# Altium integrated library 40Series.IntLib: 38 symbols
Pins are listed as number, name and electrical type; pins without a type are passive.

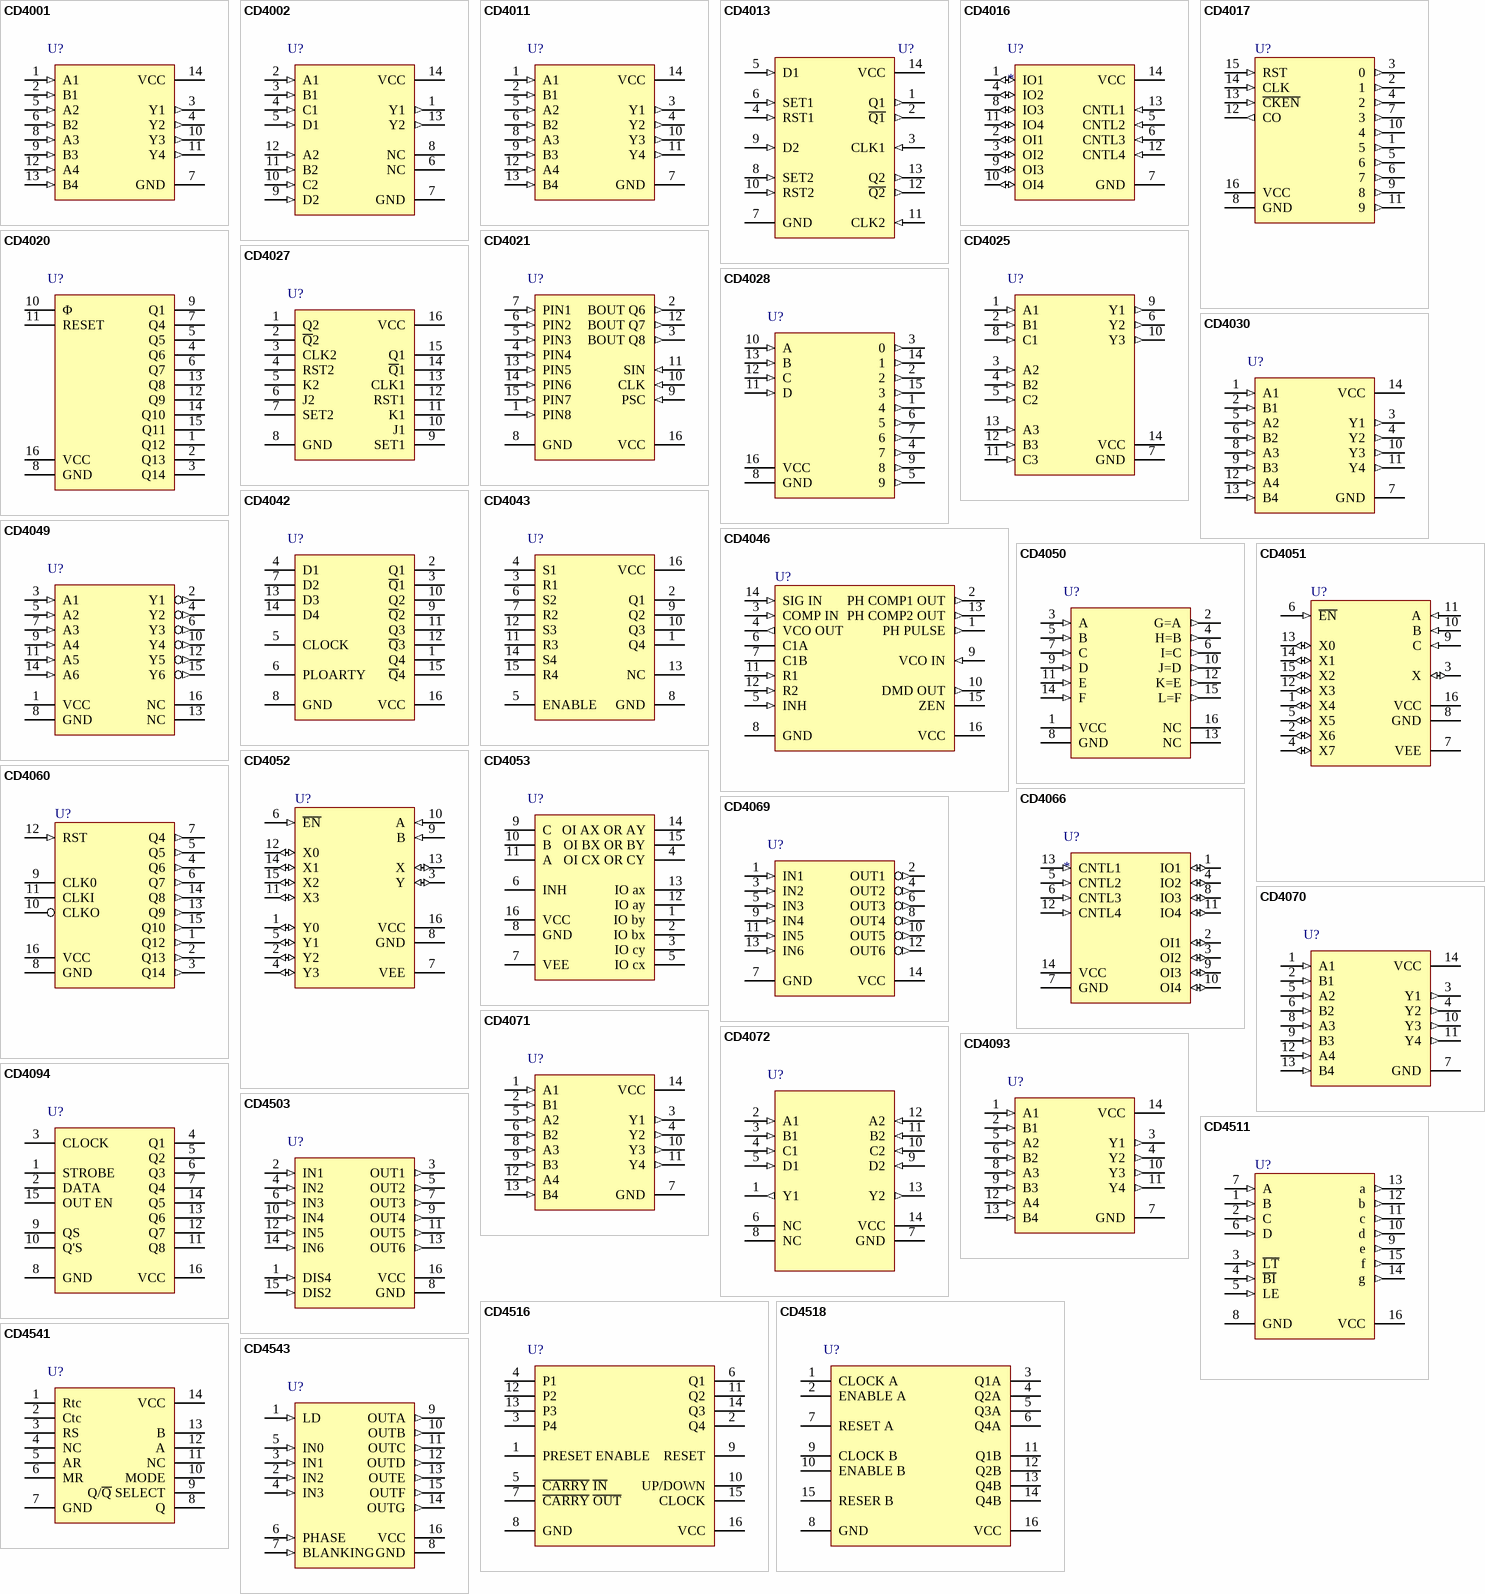
[diagram p0: symbols CD4001 to CD4543]

## CD4001
designator U?
四2输入与或门
footprint DIP14
pins: 1 A1 (in), 2 B1 (in), 3 Y1 (out), 4 Y2 (out), 5 A2 (in), 6 B2 (in), 7 GND (power), 8 A3 (in), 9 B3 (in), 10 Y3 (out), 11 Y4 (out), 12 A4 (in), 13 B4 (in), 14 VCC (power)

## CD4002
designator U?
双4输入或非门
footprint DIP14
pins: 1 Y1 (out), 2 A1 (in), 3 B1 (in), 4 C1 (in), 5 D1 (in), 6 NC, 7 GND (power), 8 NC, 9 D2 (in), 10 C2 (in), 11 B2 (in), 12 A2 (in), 13 Y2 (out), 14 VCC (power)

## CD4011
designator U?
四2输入与非门
footprint DIP14
pins: 1 A1 (in), 2 B1 (in), 3 Y1 (out), 4 Y2 (out), 5 A2 (in), 6 B2 (in), 7 GND (power), 8 A3 (in), 9 B3 (in), 10 Y3 (out), 11 Y4 (out), 12 A4 (in), 13 B4 (in), 14 VCC (power)

## CD4013
designator U?
双主从D型触发器; Published: 17-Jul-2002; LatestRevisionDate: 04-Mar-2005; LatestRevisionNote: Stylized 3D Model Added.; DatasheetVersion: Jan-1999; PackageVersion: 2000; PackageReference: N14A; Publisher: Altium Limited; PackageDescription: DIP; 14 Leads; Row Spacing 7.62 mm; Pitch 2.54 mm; ComponentLink1Description: Manufacturer Link; ComponentLink1URL: http://www.fairchildsemi.com/
footprint DIP14
pins: 1 Q1 (out), 2 ~{Q1} (out), 3 CLK1 (in), 4 RST1 (in), 5 D1 (in), 6 SET1 (in), 7 GND (power), 8 SET2 (in), 9 D2 (in), 10 RST2 (in), 11 CLK2 (in), 12 ~{Q2} (out), 13 Q2 (out), 14 VCC (power)

## CD4016
designator U?
四传输门
footprint DIP14
pins: 1 IO1 (io), 2 OI1 (io), 3 OI2 (io), 4 IO2 (io), 5 CNTL2 (in), 6 CNTL3 (in), 7 GND, 8 IO3 (io), 9 OI3 (io), 10 OI4 (io), 11 IO4 (io), 12 CNTL4 (in), 13 CNTL1 (in), 14 VCC (power)

## CD4017
designator U?
十进制计数器/分频器; Published: 17-Jul-2002; LatestRevisionDate: 04-Mar-2005; LatestRevisionNote: Stylized 3D Model Added.; DatasheetVersion: Jan-1999; PackageVersion: 2000; PackageReference: N16E; Publisher: Altium Limited; PackageDescription: DIP; 16 Leads; Row Spacing 7.62 mm; Pitch 2.54 mm; ComponentLink1Description: Manufacturer Link; ComponentLink1URL: http://www.fairchildsemi.com/; ComponentLink2Description: Datasheet; ComponentLink2URL: http://www.fairchildsemi.com/ds/CD%2FCD4017BC.pdf
footprint DIP16
pins: 1 5 (out), 2 1 (out), 3 0 (out), 4 2 (out), 5 6 (out), 6 7 (out), 7 3 (out), 8 GND (power), 9 8 (out), 10 4 (out), 11 9 (out), 12 CO (out), 13 ~{CKEN} (in), 14 CLK (in), 15 RST (in), 16 VCC (power)

## CD4020
designator U?
14j级串行二进制计数器/分频器
footprint DIP16
pins: 1 Q12, 2 Q13, 3 Q14, 4 Q6, 5 Q5, 6 Q7, 7 Q4, 8 GND (power), 9 Q1 (power), 10 Φ, 11 RESET, 12 Q9, 13 Q8, 14 Q10, 15 Q11, 16 VCC (power)

## CD4021
designator U?
8级静态移位寄存器
footprint DIP16
pins: 1 PIN8 (in), 2 BOUT Q6 (out), 3 BOUT Q8 (out), 4 PIN4 (in), 5 PIN3 (in), 6 PIN2 (in), 7 PIN1 (in), 8 GND (power), 9 PSC (in), 10 CLK (in), 11 SIN (in), 12 BOUT Q7 (out), 13 PIN5 (in), 14 PIN6 (in), 15 PIN7 (in), 16 VCC (power)

## CD4025
designator U?
三3输入或非门
footprint DIP14
pins: 1 A1 (in), 2 B1 (in), 3 A2 (in), 4 B2 (in), 5 C2 (in), 6 Y2 (out), 7 GND (power), 8 C1 (in), 9 Y1 (out), 10 Y3 (out), 11 C3 (in), 12 B3 (in), 13 A3 (in), 14 VCC (power)

## CD4027
designator U?
双J-K主从触发器
footprint DIP16
pins: 1 Q2, 2 ~{Q}2, 3 CLK2, 4 RST2, 5 K2, 6 J2, 7 SET2, 8 GND (power), 9 SET1, 10 J1, 11 K1, 12 RST1, 13 CLK1, 14 ~{Q}1, 15 Q1, 16 VCC (power)

## CD4028
designator U?
BCD码十进制译码器
footprint DIP16
pins: 1 4 (out), 2 (out), 3 0 (out), 4 7 (out), 5 9 (out), 6 5 (out), 7 6 (out), 8 GND (power), 9 8 (out), 10 A (in), 11 D (in), 12 C (in), 13 B (in), 14 1 (out), 15 3 (out), 16 VCC (power)

## CD4030
designator U?
四2输入异或门
footprint DIP14
pins: 1 A1 (in), 2 B1 (in), 3 Y1 (out), 4 Y2 (out), 5 A2 (in), 6 B2 (in), 7 GND (power), 8 A3 (in), 9 B3 (in), 10 Y3 (out), 11 Y4 (out), 12 A4 (in), 13 B4 (in), 14 VCC (power)

## CD4042
designator U?
四锁存D型触发器
footprint DIP16
pins: 1 Q4, 2 Q1, 3 ~{Q}1, 4 D1, 5 CLOCK, 6 PLOARTY, 7 D2, 8 GND (power), 9 ~{Q}2 (power), 10 Q2, 11 Q3, 12 ~{Q}3, 13 D3, 14 D4, 15 ~{Q}4, 16 VCC (power)

## CD4043
designator U?
4三态R-S锁存触发器("1"触发)
footprint DIP16
pins: 1 Q4, 2 Q1, 3 R1, 4 S1, 5 ENABLE, 6 S2, 7 R2, 8 GND (power), 9 Q2 (power), 10 Q3, 11 R3, 12 S3, 13 NC, 14 S4, 15 R4, 16 VCC (power)

## CD4046
designator U?
微功耗锁相环; Published: 17-Jul-2002; LatestRevisionDate: 04-Mar-2005; LatestRevisionNote: Stylized 3D Model Added.; DatasheetVersion: Jan-1999; PackageVersion: 2000; PackageReference: N16E; Publisher: Altium Limited; PackageDescription: DIP; 16 Leads; Row Spacing 7.62 mm; Pitch 2.54 mm; ComponentLink1Description: Manufacturer Link; ComponentLink1URL: http://www.fairchildsemi.com/; ComponentLink2Description: Datasheet; ComponentLink2URL: http://www.fairchildsemi.com/ds/CD%2FCD4046BC.pdf
footprint DIP16
pins: 1 PH PULSE (out), 2 PH COMP1 OUT (out), 3 COMP IN (in), 4 VCO OUT (out), 5 INH (in), 6 C1A, 7 C1B, 8 GND (power), 9 VCO IN (in), 10 DMD OUT (out), 11 R1 (in), 12 R2 (in), 13 PH COMP2 OUT (out), 14 SIG IN (in), 15 ZEN, 16 VCC (power)

## CD4049
designator U?
六反向器
footprint DIP16
pins: 1 VCC (power), 2 Y1 (out), 3 A1 (in), 4 Y2 (out), 5 A2 (in), 6 Y3 (out), 7 A3 (in), 8 GND (power), 9 A4 (in), 10 Y4 (out), 11 A5 (in), 12 Y5 (out), 13 NC, 14 A6 (in), 15 Y6 (out), 16 NC

## CD4050
designator U?
六同相缓冲、变换器
footprint DIP16
pins: 1 VCC (power), 2 G=A (out), 3 A (in), 4 H=B (out), 5 B (in), 6 I=C (out), 7 C (in), 8 GND (power), 9 D (in), 10 J=D (out), 11 E (in), 12 K=E (out), 13 NC, 14 F (in), 15 L=F (out), 16 NC

## CD4051
designator U?
8选1模拟开关; Published: 17-Jul-2002; LatestRevisionDate: 04-Mar-2005; LatestRevisionNote: Stylized 3D Model Added.; DatasheetVersion: Jan-1999; PackageVersion: 2000; PackageReference: N16E; Publisher: Altium Limited; PackageDescription: DIP; 16 Leads; Row Spacing 7.62 mm; Pitch 2.54 mm; ComponentLink1Description: Manufacturer Link; ComponentLink1URL: http://www.fairchildsemi.com/; ComponentLink2Description: Datasheet; ComponentLink2URL: http://www.fairchildsemi.com/ds/CD%2FCD4052BC.pdf
footprint DIP16
pins: 1 X4 (io), 2 X6 (io), 3 X (io), 4 X7 (io), 5 X5 (io), 6 ~{EN} (in), 7 VEE (power), 8 GND (power), 9 C (in), 10 B (in), 11 A (in), 12 X3 (io), 13 X0 (io), 14 X1 (io), 15 X2 (io), 16 VCC (power)

## CD4052
designator U?
双4选1模拟开关; Published: 17-Jul-2002; LatestRevisionDate: 04-Mar-2005; LatestRevisionNote: Stylized 3D Model Added.; DatasheetVersion: Jan-1999; PackageVersion: 2000; PackageReference: N16E; Publisher: Altium Limited; PackageDescription: DIP; 16 Leads; Row Spacing 7.62 mm; Pitch 2.54 mm; ComponentLink1Description: Manufacturer Link; ComponentLink1URL: http://www.fairchildsemi.com/; ComponentLink2Description: Datasheet; ComponentLink2URL: http://www.fairchildsemi.com/ds/CD%2FCD4052BC.pdf
footprint DIP16
pins: 1 Y0 (io), 2 Y2 (io), 3 Y (io), 4 Y3 (io), 5 Y1 (io), 6 ~{EN} (in), 7 VEE (power), 8 GND (power), 9 B (in), 10 A (in), 11 X3 (io), 12 X0 (io), 13 X (io), 14 X1 (io), 15 X2 (io), 16 VCC (power)

## CD4053
designator U?
3组2路模拟开关
footprint DIP16
pins: 1 IO by, 2 IO bx, 3 IO cy, 4 OI CX OR CY, 5 IO cx, 6 INH, 7 VEE, 8 GND, 9 C, 10 B, 11 A, 12 IO ay, 13 IO ax, 14 OI AX OR AY, 15 OI BX OR BY, 16 VCC

## CD4060
designator U?
14级二进制串行计数/分频器; Published: 17-Jul-2002; LatestRevisionDate: 13-Apr-2006; LatestRevisionNote: IPC-7351 Footprint Added.; DatasheetVersion: Jan-1999; PackageVersion: 2000; PackageReference: M16A; Publisher: Altium Limited; PackageDescription: 16-Pin Small Outline Integrated Circuit 1.27 mm Pitch; Code_IPC: SOIC127P600-16; ComponentLink1Description: Manufacturer Link; ComponentLink1URL: http://www.fairchildsemi.com/; ComponentLink2Description: Datasheet; ComponentLink2URL: http://www.fairchildsemi.com/ds/CD%2FCD4040BC.pdf
footprint DIP16
pins: 1 Q12 (out), 2 Q13 (out), 3 Q14 (out), 4 Q6 (out), 5 Q5 (out), 6 Q7 (out), 7 Q4 (out), 8 GND (power), 9 CLK0, 10 CLKO, 11 CLKI, 12 RST (in), 13 Q9 (out), 14 Q8 (out), 15 Q10 (out), 16 VCC (power)

## CD4066
designator U?
四传输门
footprint DIP14
pins: 1 IO1 (io), 2 OI1 (io), 3 OI2 (io), 4 IO2 (io), 5 CNTL2 (in), 6 CNTL3 (in), 7 GND, 8 IO3 (io), 9 OI3 (io), 10 OI4 (io), 11 IO4 (io), 12 CNTL4 (in), 13 CNTL1 (in), 14 VCC (power)

## CD4069
designator U?
六触发反向器
footprint SOP14
pins: 1 IN1 (in), 2 OUT1 (out), 3 IN2 (in), 4 OUT2 (out), 5 IN3 (in), 6 OUT3 (out), 7 GND (power), 8 OUT4 (out), 9 IN4 (in), 10 OUT5 (out), 11 IN5 (in), 12 OUT6 (out), 13 IN6 (in), 14 VCC (power)

## CD4070
designator U?
四2输入异或门
footprint DIP14
pins: 1 A1 (in), 2 B1 (in), 3 Y1 (out), 4 Y2 (out), 5 A2 (in), 6 B2 (in), 7 GND (power), 8 A3 (in), 9 B3 (in), 10 Y3 (out), 11 Y4 (out), 12 A4 (in), 13 B4 (in), 14 VCC (power)

## CD4071
designator U?
四2输入或门
footprint DIP14
pins: 1 A1 (in), 2 B1 (in), 3 Y1 (out), 4 Y2 (out), 5 A2 (in), 6 B2 (in), 7 GND (power), 8 A3 (in), 9 B3 (in), 10 Y3 (out), 11 Y4 (out), 12 A4 (in), 13 B4 (in), 14 VCC (power)

## CD4072
designator U?
双4输入或门
footprint DIP14
pins: 1 Y1 (out), 2 A1 (in), 3 B1 (in), 4 C1 (in), 5 D1 (in), 6 NC, 7 GND (power), 8 NC, 9 D2 (in), 10 C2 (in), 11 B2 (in), 12 A2 (in), 13 Y2 (out), 14 VCC (power)

## CD4093
designator U?
四2输入与非施密特触发器
footprint DIP14
pins: 1 A1 (in), 2 B1 (in), 3 Y1 (out), 4 Y2 (out), 5 A2 (in), 6 B2 (in), 7 GND (power), 8 A3 (in), 9 B3 (in), 10 Y3 (out), 11 Y4 (out), 12 A4 (in), 13 B4 (in), 14 VCC (power)

## CD4094
designator U?
8-BIT移位寄存器
footprint DIP16
pins: 1 STROBE, 2 DATA, 3 CLOCK, 4 Q1, 5 Q2, 6 Q3, 7 Q4, 8 GND (power), 9 QS (power), 10 Q'S, 11 Q8, 12 Q7, 13 Q6, 14 Q5, 15 OUT EN, 16 VCC (power)

## CD4503
designator U?
六3态同相缓冲器
footprint DIP16
pins: 1 DIS4 (in), 2 IN1 (in), 3 OUT1 (out), 4 IN2 (in), 5 OUT2 (out), 6 IN3 (in), 7 OUT3 (out), 8 GND (power), 9 OUT4 (out), 10 IN4 (in), 11 OUT5 (out), 12 IN5 (in), 13 OUT6 (out), 14 IN6 (in), 15 DIS2 (in), 16 VCC (power)

## CD4511
designator U?
7段锁存器/解码器/驱动器; Published: 17-Jul-2002; LatestRevisionDate: 04-Mar-2005; LatestRevisionNote: Stylized 3D Model Added.; DatasheetVersion: Jan-1999; PackageVersion: 2000; PackageReference: N16E; Publisher: Altium Limited; PackageDescription: DIP; 16 Leads; Row Spacing 7.62 mm; Pitch 2.54 mm; ComponentLink1Description: Manufacturer Link; ComponentLink1URL: http://www.fairchildsemi.com/; ComponentLink2Description: Datasheet; ComponentLink2URL: http://www.fairchildsemi.com/ds/CD%2FCD4511BC.pdf
footprint DIP16
pins: 1 B (in), 2 C (in), 3 ~{LT} (in), 4 ~{BI} (in), 5 LE (in), 6 D (in), 7 A (in), 8 GND (power), 9 e (out), 10 d (out), 11 c (out), 12 b (out), 13 a (out), 14 g (out), 15 f (out), 16 VCC (power)

## CD4516
designator U?
可预置4位二进制加/减计数器
footprint DIP16
pins: 1 PRESET ENABLE, 2 Q4, 3 P4, 4 P1, 5 ~{CARRY} ~{IN}, 6 Q1, 7 ~{CARRY} ~{OUT}, 8 GND (power), 9 RESET (power), 10 UP/DOWN, 11 Q2, 12 P2, 13 P3, 14 Q3, 15 CLOCK, 16 VCC (power)

## CD4518
designator U?
双BCD同步加计数器
footprint DIP16
pins: 1 CLOCK A, 2 ENABLE A, 3 Q1A, 4 Q2A, 5 Q3A, 6 Q4A, 7 RESET A, 8 GND (power), 9 CLOCK B (power), 10 ENABLE B, 11 Q1B, 12 Q2B, 13 Q4B, 14 Q4B, 15 RESER B, 16 VCC (power)

## CD4541
designator U?
可编程振荡、计时器
footprint DIP14
pins: 1 Rtc, 2 Ctc, 3 RS, 4 NC, 5 AR, 6 MR, 7 GND (power), 8 Q, 9 Q/~{Q} SELECT, 10 MODE, 11 NC, 12 A, 13 B, 14 VCC (power)

## CD4543
designator U?
LCD译码器、驱动器
footprint DIP16
pins: 1 LD (in), 2 IN2 (in), 3 IN1 (in), 4 IN3 (in), 5 IN0 (in), 6 PHASE (in), 7 BLANKING (in), 8 GND (power), 9 OUTA (out), 10 OUTB (out), 11 OUTC (out), 12 OUTD (out), 13 OUTE (out), 14 OUTG (out), 15 OUTF (out), 16 VCC (power)

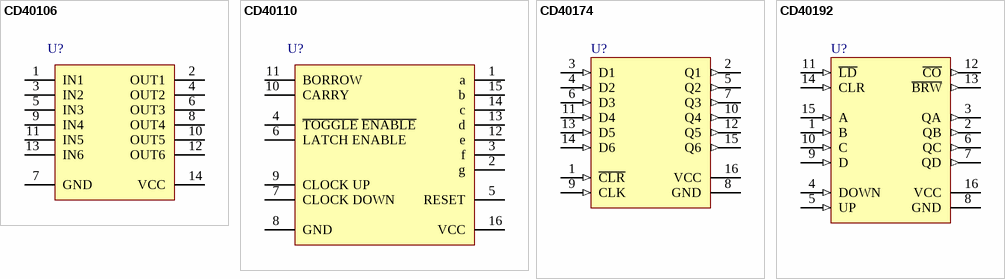
[diagram p1: symbols CD40106 to CD40192]

## CD40106
designator U?
六施密特触发反向器
footprint DIP14
pins: 1 IN1, 2 OUT1, 3 IN2, 4 OUT2, 5 IN3, 6 OUT3, 7 GND (power), 8 OUT4, 9 IN4, 10 OUT5, 11 IN5, 12 OUT6, 13 IN6, 14 VCC (power)

## CD40110
designator U?
十进制加/减,计数、锁存、译码驱动器
footprint DIP16
pins: 1 a, 2 g, 3 f, 4 ~{TOGGLE} ~{ENABLE}, 5 RESET, 6 LATCH ENABLE, 7 CLOCK DOWN, 8 GND (power), 9 CLOCK UP (power), 10 CARRY, 11 BORROW, 12 e, 13 d, 14 c, 15 b, 16 VCC (power)

## CD40174
designator U?
十六进制D型触发器; Published: 17-Jul-2002; LatestRevisionDate: 04-Mar-2005; LatestRevisionNote: Stylized 3D Model Added.; DatasheetVersion: Jan-1999; PackageVersion: 2000; PackageReference: N16E; Publisher: Altium Limited; PackageDescription: DIP; 16 Leads; Row Spacing 7.62 mm; Pitch 2.54 mm; ComponentLink1Description: Manufacturer Link; ComponentLink1URL: http://www.fairchildsemi.com/; ComponentLink2Description: Datasheet; ComponentLink2URL: http://www.fairchildsemi.com/ds/CD%2FCD40174BC.pdf
footprint DIP16
pins: 1 ~{CLR} (in), 2 Q1 (out), 3 D1 (in), 4 D2 (in), 5 Q2 (out), 6 D3 (in), 7 Q3 (out), 8 GND (power), 9 CLK (in), 10 Q4 (out), 11 D4 (in), 12 Q5 (out), 13 D5 (in), 14 D6 (in), 15 Q6 (out), 16 VCC (power)

## CD40192
designator U?
同步4位向上/向下十进制计数器; Published: 17-Jul-2002; LatestRevisionDate: 04-Mar-2005; LatestRevisionNote: Stylized 3D Model Added.; DatasheetVersion: Jan-1999; PackageVersion: 2000; PackageReference: N16E; Publisher: Altium Limited; PackageDescription: DIP; 16 Leads; Row Spacing 7.62 mm; Pitch 2.54 mm; ComponentLink1Description: Manufacturer Link; ComponentLink1URL: http://www.fairchildsemi.com/
footprint DIP16
pins: 1 B (in), 2 QB (out), 3 QA (out), 4 DOWN (in), 5 UP (in), 6 QC (out), 7 QD (out), 8 GND (power), 9 D (in), 10 C (in), 11 ~{LD} (in), 12 ~{CO} (out), 13 ~{BRW} (out), 14 CLR (in), 15 A (in), 16 VCC (power)